# Altium schematic symbol library LM321LVIDBVR.Schlib: 1 symbol
Pins are listed as number, name and electrical type; pins without a type are passive.

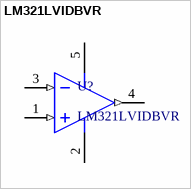
[diagram p0: symbol LM321LVIDBVR]

## LM321LVIDBVR
designator U?
General Purpose Amplifier 1 Circuit  SOT-23-5
pins: 1 IN+ (in), 2 V- (power), 3 IN- (in), 4 OUT (out), 5 V+ (power)